# Altium schematic symbol library Integrated LED.SchLib: 1 symbol
Pins are listed as number, name and electrical type; pins without a type are passive.

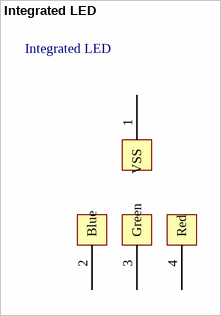
[diagram p0: symbol Integrated LED]

## Integrated LED
designator Integrated LED  (value not drawn)
footprint Integrated LED
pins: 1 VSS, 2 Blue, 3 Green, 4 Red